# Altium footprint library AS5600-block.PcbLib: 18 footprints (part 1 of 2)
Each footprint in its own frame and in the unit in brackets; x right, y up, seen from the top. Pads: shape width x height; smd on the part's side, far side on the other; paste and mask are expansions set on the pad; w line width, h text height; cw(c..) or ccw(c..) is an arc to the next point about the centre after c.
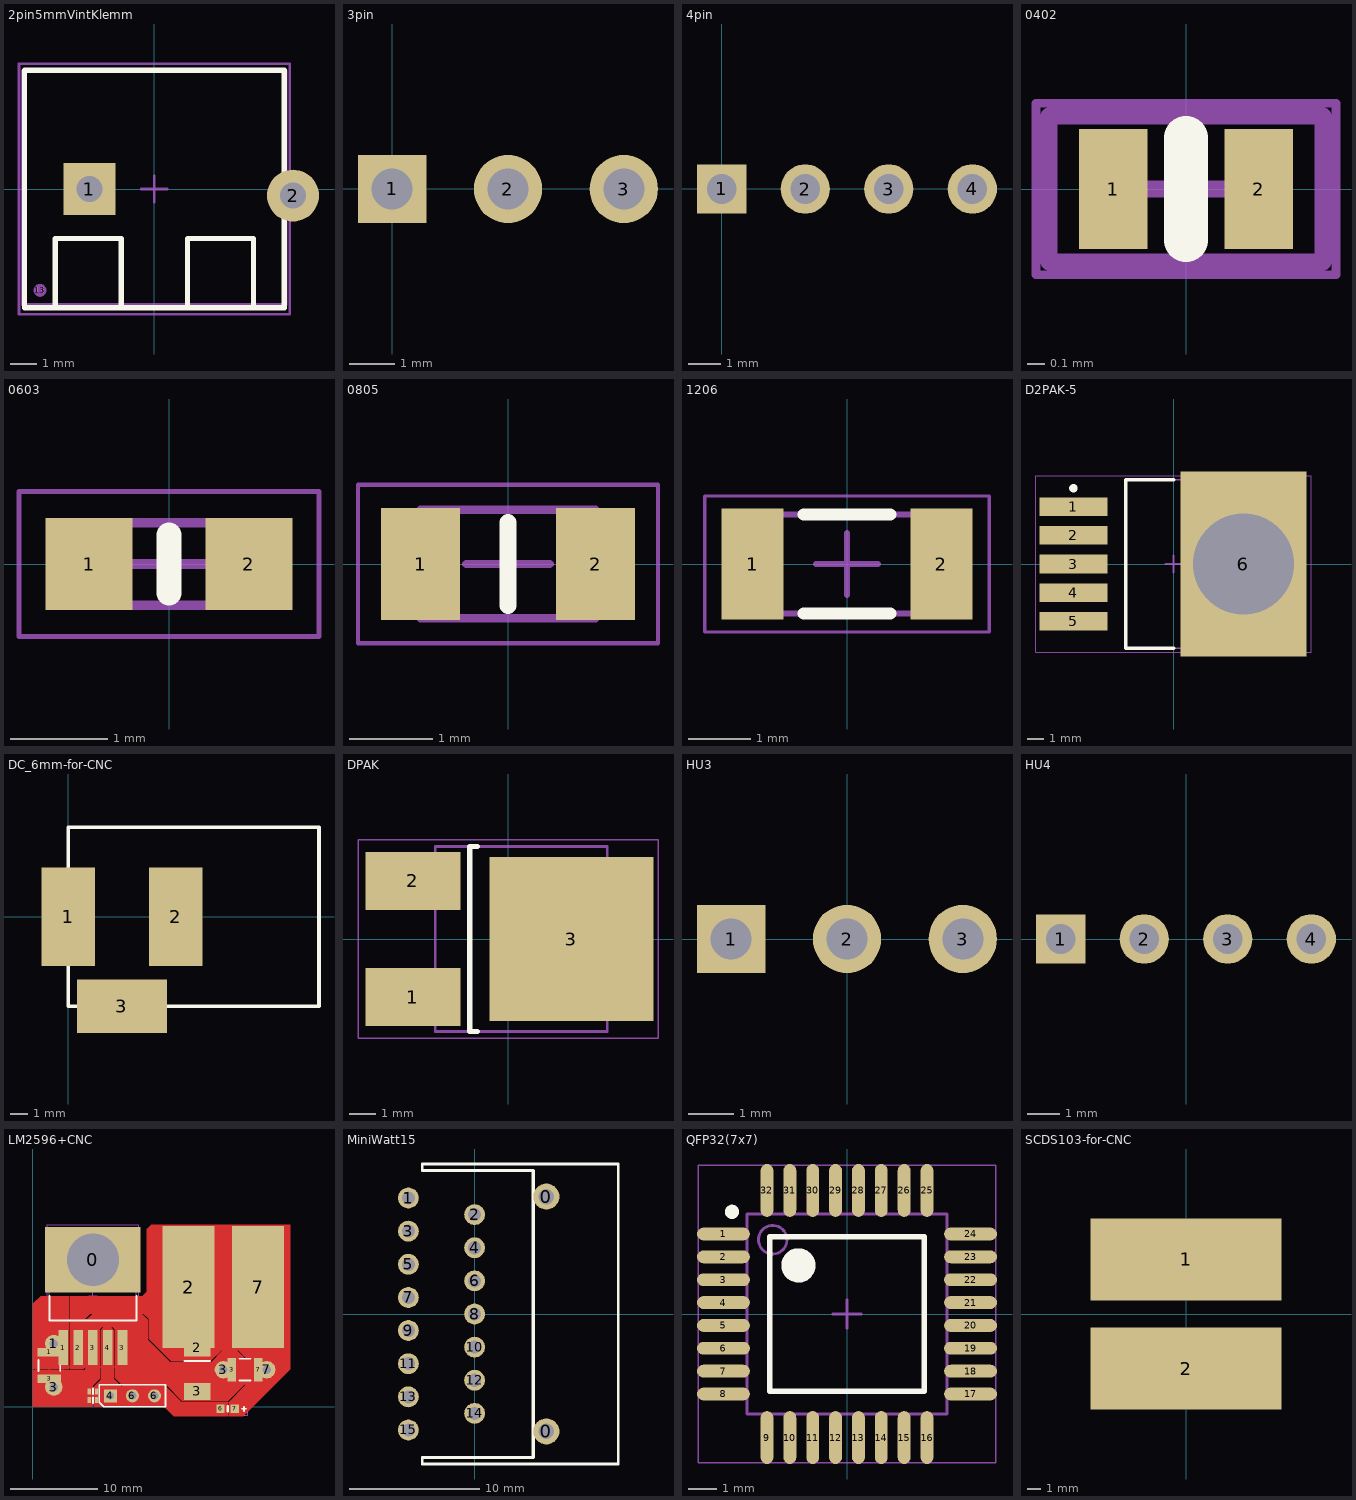
[diagram p0: the footprints below, top view; thin cyan lines are the x and y axes]

## 2pin5mmVintKlemm [mm]
pads (3):
  rect 2x2 hole 1: 1(-2.5,0)
  round 2 hole 1: 2(5.334,-0.254)
  round 0.5 on Mech1: 13(-4.4,-3.9)
Top Overlay:
  lines w0.2: -3.81,-4.572 -3.81,-1.905 -1.27,-1.905 -1.27,-4.445 ; 1.27,-4.572 1.27,-1.905 3.81,-1.905 3.81,-4.445 ; -5,-4.572 -5,4.572 5,4.572 5,-4.572 -5,-4.572
Mechanical 1:
  lines w0.1: -5.08,-4.445 5.08,-4.445 5.08,4.555 -5.08,4.555 -5.08,-4.445
Mechanical 15:
  lines w0.1: -0.5,0 0.5,0 ; 0,-0.5 0,0.5 ; -5.207,-4.826 -5.207,4.826 5.207,4.826 5.207,-4.826 -5.207,-4.826
3D body "300-02.STEP": height 12.5, standoff -4, extent -5.08,-4.445 5.08,4.555

## 3pin [mm]
pads (3):
  rect 1.5x1.5 hole 0.9: 1(0,0)
  round 1.5 hole 0.9: 2(2.54,0) 3(5.08,0)
3D body "User Library-PLS-1.STEP": height 8.44, standoff -3, extent 3.81,-1.27 6.35,1.27
3D body "User Library-PLS-1.STEP": height 8.44, standoff -3, extent 1.27,-1.27 3.81,1.27
3D body "User Library-PLS-1.STEP": height 8.44, standoff -3, extent -1.27,-1.27 1.27,1.27

## 4pin [mm]
pads (4):
  rect 1.5x1.5 hole 0.9: 1(0,0)
  round 1.5 hole 0.9: 2(2.54,0) 3(5.08,0) 4(7.62,0)
3D body "User Library-PLS-1.STEP": height 8.44, standoff -3, extent -1.27,-1.27 1.27,1.27
3D body "User Library-PLS-1.STEP": height 8.44, standoff -3, extent 1.27,-1.27 3.81,1.27
3D body "User Library-PLS-1.STEP": height 8.44, standoff -3, extent 3.81,-1.27 6.35,1.27
3D body "User Library-PLS-1.STEP": height 8.44, standoff -3, extent 6.35,-1.27 8.89,1.27

## 0402 [mm]
pads (2):
  rect 0.4x0.7 smd: 1(-0.425,0) 2(0.425,0)
Top Overlay:
  lines w0.254: 0,-0.3 0,0.3
Mechanical 13:
  lines w0.1: -0.8,-0.425 -0.8,0.425 0.8,0.425 0.8,-0.425 -0.8,-0.425
Mechanical 15:
  lines w0.05: -0.875,-0.5 -0.875,0.5 0.875,0.5 0.875,-0.5 -0.875,-0.5
  lines w0.1: -0.425,0 0.425,0 ; 0,-0.425 0,0.425
3D body: height 0.3, standoff 0, extent -0.25,-0.25 0.25,0.25
3D body: height 0.3, standoff 0, extent -0.5,-0.25 -0.25,0.25
3D body: height 0.3, standoff 0, extent 0.25,-0.25 0.5,0.25

## 0603 [mm]
pads (2):
  rect 0.9x0.95 smd: 1(-0.825,0) 2(0.825,0)
Top Overlay:
  lines w0.254: 0,-0.3 0,0.3
Mechanical 13:
  lines w0.1: -0.8,-0.425 0.8,-0.425 0.8,0.425 -0.8,0.425 -0.8,-0.425
Mechanical 15:
  lines w0.05: -1.55,-0.75 1.55,-0.75 1.55,0.75 -1.55,0.75 -1.55,-0.75
  lines w0.1: -0.425,0 0.425,0 ; 0,-0.425 0,0.425
3D body: height 0.3, standoff 0, extent 0.35,-0.425 0.8,0.425
3D body: height 0.3, standoff 0, extent -0.8,-0.425 -0.35,0.425
3D body: height 0.3, standoff 0, extent -0.35,-0.425 0.35,0.425

## 0805 [mm]
pads (2):
  rect 0.95x1.35 smd: 1(-1.05,0) 2(1.05,0)
Top Overlay:
  lines w0.2: 0,-0.5 0,0.5
Mechanical 13:
  lines w0.1: -1.05,-0.65 -1.05,0.65 1.05,0.65 1.05,-0.65 -1.05,-0.65
Mechanical 15:
  lines w0.05: -1.8,-0.95 -1.8,0.95 1.8,0.95 1.8,-0.95 -1.8,-0.95
  lines w0.1: -0.5,0 0.5,0 ; 0,-0.5 0,0.5
3D body: height 0.4, standoff 0, extent -0.55,-0.65 0.55,0.65
3D body: height 0.4, standoff 0, extent -1.05,-0.65 -0.55,0.65
3D body: height 0.4, standoff 0, extent 0.55,-0.65 1.05,0.65

## 1206 [mm]
pads (2):
  rect 1x1.8 smd: 1(-1.525,0) 2(1.525,0)
Top Overlay:
  lines w0.2: -0.7,-0.8 0.7,-0.8 ; -0.7,0.8 0.7,0.8
Mechanical 13:
  lines w0.1: -1.55,-0.8 -1.55,0.8 1.55,0.8 1.55,-0.8 -1.55,-0.8
Mechanical 15:
  lines w0.05: -2.3,-1.1 -2.3,1.1 2.3,1.1 2.3,-1.1 -2.3,-1.1
  lines w0.1: -0.5,0 0.5,0 ; 0,-0.5 0,0.5
3D body: height 0.5, standoff 0, extent -1,-0.8 1,0.8
3D body: height 0.5, standoff 0, extent -1.55,-0.8 -1,0.8
3D body: height 0.5, standoff 0, extent 1,-0.8 1.55,0.8

## D2PAK-5 [mm]
pads (6):
  rect 4.05x1.1 smd: 1(-5.95,3.4) 2(-5.95,1.7) 3(-5.95,0) 4(-5.95,-1.7) 5(-5.95,-3.4)
  rect 7.5x11 hole 6: 6(4.15,0)
Top Overlay:
  circle w0.25: c-5.95,4.5 r0.125
  lines w0.2: 0,-5 -2.85,-5 -2.85,5 0,5
Mechanical 13:
  lines w0.1: -2.85,-5 6.15,-5 6.15,5 -2.85,5 -2.85,-5
Mechanical 15:
  lines w0.05: -8.175,-5.25 8.175,-5.25 8.175,5.25 -8.175,5.25 -8.175,-5.25
  lines w0.1: -0.5,0 0.5,0 ; 0,-0.5 0,0.5
3D body: height 5, standoff 0, extent -2.85,-5 6.15,5

## DC_6mm-for-CNC [mm]
pads (3):
  rect 3x5.5 smd: 1(0,0) 2(6,0)
  rect 5x3 smd: 3(3,-5)
Top Overlay:
  lines w0.2: 0,-5 0,5 14,5 14,-5 0,-5
Mechanical 3:
  lines w0.254: 0,-1.5 0,1.5 ; 1.75,-5 4.25,-5 ; 6,-1.5 6,1.5
3D body: height 11, standoff 0, extent 0,-5 14,5

## DPAK [mm]
pads (3):
  rect 3.6x2.2 smd: 1(-3.6,-2.2) 2(-3.6,2.2)
  rect 6.2x6.2 smd: 3(2.4,0)
Top Overlay:
  lines w0.2: -1.15,-3.5 -1.45,-3.5 -1.45,3.5 -1.15,3.5
Mechanical 13:
  lines w0.1: -2.75,-3.5 -2.75,3.5 3.75,3.5 3.75,-3.5 -2.75,-3.5
Mechanical 15:
  lines w0.05: -5.675,-3.75 -5.675,3.75 5.675,3.75 5.675,-3.75 -5.675,-3.75
  lines w0.1: -0.5,0 0.5,0 ; 0,-0.5 0,0.5
3D body: height 5, standoff 0, extent -2.75,-3.5 3.75,3.5

## HU3 [mm]
pads (3):
  rect 1.5x1.5 hole 0.9: 1(-2.54,0)
  round 1.5 hole 0.9: 2(0,0) 3(2.54,0)
3D body: height 9.5, standoff -3.5, extent -0.3,-0.3 0.3,0.3
3D body: height 9.5, standoff -3.5, extent -2.84,-0.3 -2.24,0.3
3D body: height 11, standoff 3, extent -2.54,1.7 2.54,2.7
3D body: height 3, standoff 0, extent -3.81,-3.3 3.81,2.7
3D body: height 9.5, standoff -3.5, extent 2.24,-0.3 2.84,0.3

## HU4 [mm]
pads (4):
  rect 1.5x1.5 hole 0.9: 1(-3.81,0)
  round 1.5 hole 0.9: 2(-1.27,0) 3(1.27,0) 4(3.81,0)
3D body: height 9.5, standoff -3.5, extent 3.51,-0.3 4.11,0.3
3D body: height 9.5, standoff -3.5, extent 0.97,-0.3 1.57,0.3
3D body: height 3, standoff 0, extent -5.08,-3.3 5.08,2.7
3D body: height 11, standoff 3, extent -3.81,1.7 3.81,2.7
3D body: height 9.5, standoff -3.5, extent -4.11,-0.3 -3.51,0.3
3D body: height 9.5, standoff -3.5, extent -1.57,-0.3 -0.97,0.3

## LM2596+CNC [mm]
pads (27):
  rect 11x7.5 hole 6: 0(6.904,16.886)
  rect 2.7x1 smd: 1(1.904,6.261) 3(1.904,3.211)
  round 2 hole 1: 1(2.404,7.236) 3(2.404,2.236) 3(21.904,4.236) 7(26.904,4.236)
  rect 1.1x4.05 smd: 1(3.504,6.786) 2(5.204,6.786) 3(6.904,6.786) 3(10.304,6.786) 4(8.604,6.786)
  rect 6x14 smd: 2(17.904,13.736)
  rect 3x2 smd: 2(18.904,6.736) 3(18.904,1.736)
  rect 0.4x0.7 smd: 3(6.504,0.736) 3(6.504,1.736) 4(7.354,0.736) 4(7.354,1.736)
  rect 1x2.7 smd: 3(22.879,4.236) 7(25.929,4.236)
  rect 1.5x1.5 hole 0.9: 4(8.904,1.236)
  round 1.5 hole 0.9: 6(11.444,1.236) 6(13.984,1.236)
  rect 0.95x0.95 smd: 6(21.579,-0.264) 7(23.229,-0.264)
  rect 6x14 smd mask+0.102: 7(25.904,13.736)
Top Layer:
  region: 4.2,4.3 0,4.3 0,11.8 0.9,12.7 4.2,12.7
  region: 22.5,-1.1 22.5,0.5 24.5,2.5 24.5,5.6 23.6,6.5 21.8,6.5 21.8,20.9 29.6,20.9 29.6,4.3 24.2,-1.1
  region: 22.4,0.5 22.4,-1.1 16.2,-1.1 15.1,0 10.3,0 10.3,2.5 15.1,2.5 17.1,0.5
  region: 6.1,9.9 6.8,10.6 12.6,10.6 13.2,10 13.2,7.7 15.8,5.1 20.5,5.1 21.8,6.4 23.5,6.4 24.4,5.5 24.4,2.6 22.4,0.6 17.2,0.6 15.2,2.6 10.1,2.6 9.4,3.3 9.4,8.9 9.1,9.2 8,9.2 7.7,8.9 7.7,3.2 6.9,2.4 6.9,0 0,0 0,4.2 5.9,4.2 6.1,4.4
  region: 7.8,8.8 8.1,9.1 9,9.1 9.3,8.8 9.3,3.2 10.2,2.3 10.2,0 7,0 7,2.3 7.8,3.1
  region: 4.3,4.3 4.3,12.7 12.6,12.7 13.1,13.2 13.1,20.4 13.6,20.9 21.7,20.9 21.7,6.5 20.4,5.2 15.9,5.2 13.3,7.8 13.3,10.1 12.7,10.7 6.6,10.7 6,10.1 6,4.5 5.8,4.3
Top Overlay:
  circle w0.25: c2.404,6.786 r0.125
  lines w0.2: 0.654,4.086 0.654,5.386 ; 1.904,12.736 1.904,9.886 11.904,9.886 11.904,12.736 ; 3.154,4.086 3.154,5.386 ; 17.404,5.236 20.404,5.236 ; 23.754,2.986 25.054,2.986 ; 23.754,5.486 25.054,5.486 ; 24.029,-0.264 24.529,-0.264 ; 24.279,-0.514 24.279,-0.014 ; 7.634,0.474 7.634,2.506 15.254,2.506 15.254,1.152 15.254,0.42 15.254,-0.034 8.142,-0.034 7.634,0.474
  lines w0.254: 6.929,0.436 6.929,1.036 ; 6.929,1.436 6.929,2.036 ; 22.404,-0.564 22.404,0.036
Bottom Overlay:
  circle w0.5: c24.404,4.236 r4
  circle w0.5: c2.404,4.736 r4
  region: 24.404,0.236 23.004,0.336 22.104,0.936 20.904,2.036 20.604,2.736 21.604,3.136 22.204,3.136 22.704,3.436 23.004,3.936 23.004,4.536 22.704,5.036 22.204,5.336 21.604,5.336 21.104,5.036 20.804,4.536 20.804,3.936 21.104,3.436 21.604,3.136 20.604,2.736 20.304,4.236 20.504,5.636 21.204,6.936 22.404,7.836 23.204,8.136 24.404,8.236
  region: 6.404,4.736 6.304,3.336 5.704,2.436 4.604,1.236 3.904,0.936 3.504,1.936 3.504,2.536 3.204,3.036 2.704,3.336 2.104,3.336 1.604,3.036 1.304,2.536 1.304,1.936 1.604,1.436 2.104,1.136 2.704,1.136 3.204,1.436 3.504,1.936 3.904,0.936 2.404,0.636 1.004,0.836 -0.296,1.536 -1.196,2.736 -1.496,3.536 -1.596,4.736
  lines w0.2: 7.634,2.506 7.634,0.474 8.142,-0.034 15.254,-0.034 15.254,2.506
  lines w0.5: 3.404,6.236 5.404,6.236 ; 4.404,5.236 4.404,7.236 ; 24.904,2.236 26.904,2.236 ; 25.904,1.236 25.904,3.236
Mechanical 13:
  lines w0.1: 0.604,3.186 3.204,3.186 3.204,6.286 0.604,6.286 0.604,3.186 ; 1.904,9.886 11.904,9.886 11.904,18.886 1.904,18.886 1.904,9.886 ; 6.129,0.311 6.129,1.161 7.729,1.161 7.729,0.311 6.129,0.311 ; 6.129,1.311 6.129,2.161 7.729,2.161 7.729,1.311 6.129,1.311 ; 21.604,-0.689 21.604,0.161 23.204,0.161 23.204,-0.689 21.604,-0.689 ; 22.854,2.936 22.854,5.536 25.954,5.536 25.954,2.936 22.854,2.936
Mechanical 15:
  lines w0.05: 6.054,1.236 6.054,0.236 7.804,0.236 7.804,1.236 ; 6.054,1.236 7.804,1.236 ; 6.054,1.236 6.054,2.236 7.804,2.236 7.804,1.236 ; 6.054,1.236 7.804,1.236 ; 0.304,2.436 3.504,2.436 3.504,7.036 0.304,7.036 0.304,2.436 ; 1.654,4.561 12.154,4.561 12.154,20.911 1.654,20.911 1.654,4.561 ; 20.854,-1.014 20.854,0.486 24.69,0.486 24.69,-1.014 20.854,-1.014 ; 22.104,2.636 22.104,5.836 26.704,5.836 26.704,2.636 22.104,2.636
  lines w0.1: 1.404,4.736 2.404,4.736 ; 1.904,4.236 1.904,5.236 ; 6.404,12.736 7.404,12.736 ; 6.504,0.736 7.354,0.736 ; 6.504,1.736 7.354,1.736 ; 6.904,12.236 6.904,13.236 ; 6.929,0.311 6.929,1.161 ; 6.929,1.311 6.929,2.161 ; 21.979,-0.264 22.829,-0.264 ; 22.404,-0.689 22.404,0.161 ; 23.904,4.236 24.904,4.236 ; 24.404,3.736 24.404,4.736
3D body: height 0.3, standoff 0, extent 6.679,0.486 7.179,0.986
3D body: height 0.3, standoff 0, extent 7.179,0.486 7.429,0.986
3D body: height 0.3, standoff 0, extent 6.429,0.486 6.679,0.986
3D body: height 0.3, standoff 0, extent 6.679,1.486 7.179,1.986
3D body: height 0.3, standoff 0, extent 6.429,1.486 6.679,1.986
3D body: height 0.3, standoff 0, extent 7.179,1.486 7.429,1.986
3D body: height 5, standoff 0, extent 1.904,9.886 11.904,18.886
3D body "User Library-PLS-1.STEP": height 8.44, standoff -3, extent 12.714,-0.034 15.254,2.506
3D body "User Library-PLS-1.STEP": height 8.44, standoff -3, extent 10.174,-0.034 12.714,2.506
3D body "User Library-PLS-1.STEP": height 8.44, standoff -3, extent 7.634,-0.034 10.174,2.506
3D body: height 0.3, standoff 0, extent 22.054,-0.689 22.754,0.161
3D body: height 0.3, standoff 0, extent 22.754,-0.689 23.204,0.161
3D body: height 0.3, standoff 0, extent 21.604,-0.689 22.054,0.161
3D body: height 0.5, standoff 0, extent 23.404,2.936 25.404,5.536
3D body: height 0.5, standoff 0, extent 25.404,2.936 25.954,5.536
3D body: height 0.5, standoff 0, extent 22.854,2.936 23.404,5.536
3D body: height 0.5, standoff 0, extent 0.604,3.736 3.204,5.736
3D body: height 0.5, standoff 0, extent 0.604,5.736 3.204,6.286
3D body: height 0.5, standoff 0, extent 0.604,3.186 3.204,3.736
3D body: height 5, standoff 0, extent 16.904,8.736 26.904,18.736
3D body: height 2.5, standoff 0, extent 16.904,1.736 20.904,6.736
3D body: height 2.6, standoff 2.5, extent 17.404,5.236 20.404,5.736
3D body: height 10.5, standoff 0.5, extent 20.436,0.243 28.404,8.228
3D body: height 10.5, standoff 0.5, extent -1.588,0.767 6.396,8.736

## MiniWatt15 [mm]
pads (17):
  round 2 hole 1.2: 0(5.5,-9) 0(5.5,9)
  round 1.6 hole 1: 1(-5.08,8.89) 2(0,7.62) 3(-5.08,6.35) 4(0,5.08) 5(-5.08,3.81) 6(0,2.54) 7(-5.08,1.27) 8(0,0) 9(-5.08,-1.27) 10(0,-2.54) 11(-5.08,-3.81) 12(0,-5.08) 13(-5.08,-6.35) 14(0,-7.62) 15(-5.08,-8.89)
Top Overlay:
  lines w0.2: 4.5,-11 -4,-11 -4,-11.5 11,-11.5 11,11.5 -4,11.5 -4,11 4.5,11
  lines w0.25: 4.5,-11 4.5,11
3D body: height 0, standoff -4, extent 5.004,-9.499 6,-8.501
3D body: height 0, standoff -4, extent 5.004,8.501 6,9.499
3D body: height 25, standoff 0, extent -4,-11.5 11,11.5
3D body: height 12, standoff 2, extent -0.5,-10 3.5,10
3D body: height 19, standoff 5, extent 3,-10 4.5,10

## QFP32(7x7) [mm]
pads (32):
  oval 1.85x0.45 smd: 1(-4.325,2.8) 2(-4.325,2) 3(-4.325,1.2) 4(-4.325,0.4) 5(-4.325,-0.4) 6(-4.325,-1.2) 7(-4.325,-2) 8(-4.325,-2.8) 17(4.325,-2.8) 18(4.325,-2) 19(4.325,-1.2) 20(4.325,-0.4) 21(4.325,0.4) 22(4.325,1.2) 23(4.325,2) 24(4.325,2.8)
  oval 0.45x1.85 smd: 9(-2.8,-4.325) 10(-2,-4.325) 11(-1.2,-4.325) 12(-0.4,-4.325) 13(0.4,-4.325) 14(1.2,-4.325) 15(2,-4.325) 16(2.8,-4.325) 25(2.8,4.325) 26(2,4.325) 27(1.2,4.325) 28(0.4,4.325) 29(-0.4,4.325) 30(-1.2,4.325) 31(-2,4.325) 32(-2.8,4.325)
Top Overlay:
  circle w0.6: c-1.7,1.7 r0.3
  circle w0.25: c-4.025,3.575 r0.125
  lines w0.2: -2.7,-2.7 2.7,-2.7 2.7,2.7 -2.7,2.7 -2.7,-2.7
Mechanical 13:
  circle w0.1: c-2.6,2.6 r0.5
  lines w0.1: -3.5,-3.5 3.5,-3.5 3.5,3.5 -3.5,3.5 -3.5,-3.5
Mechanical 15:
  lines w0.05: -5.2,-5.2 5.2,-5.2 5.2,5.2 -5.2,5.2 -5.2,-5.2
  lines w0.1: -0.5,0 0.5,0 ; 0,-0.5 0,0.5
3D body: height 2.45, standoff 0.25, extent -3.5,-3.5 3.5,3.5

## SCDS103-for-CNC [mm]
pads (2):
  rect 14x6 smd: 1(0,4)
  rect 14x6 smd mask+0.102: 2(0,-4)
3D body: height 5, standoff 0, extent -5,-5 5,5